# Altium footprint library 694108402002.PcbLib: 1 footprints
Each footprint in its own frame and in the unit in brackets; x right, y up, seen from the top. Pads: shape width x height; smd on the part's side, far side on the other; paste and mask are expansions set on the pad; w line width, h text height; cw(c..) or ccw(c..) is an arc to the next point about the centre after c.
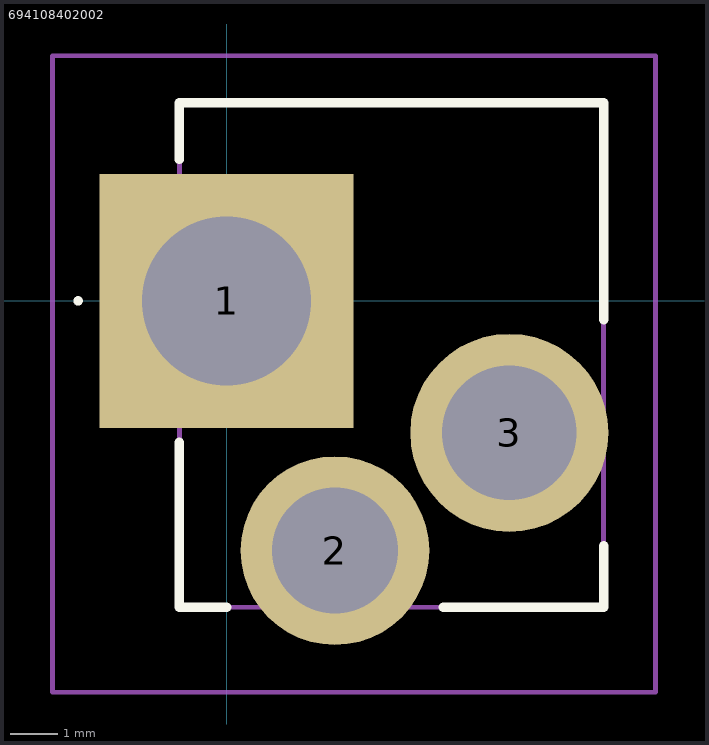
[diagram p0: the footprint, top view; thin cyan lines are the x and y axes]

## 694108402002 [mm]
pads (3):
  rect 5.385x5.385 hole 3.59: 1(0,0)
  round 4.005 hole 2.67: 2(2.3,-5.3)
  round 4.2 hole 2.86: 3(6,-2.8)
Top Overlay:
  lines w0.1: -3.2,0 -3.2,0 ; -3.2,0 ccw(c-3.15,0) -3.1,0 ; -3.2,0 cw(c-3.15,0) -3.1,0 ; -3.1,0 -3.1,0
  lines w0.2: -1,-3 -1,-6.5 0,-6.5 ; -1,3 -1,4.2 8,4.2 8,-0.4 ; 4.6,-6.5 8,-6.5 8,-5.2
Mechanical 15:
  lines w0.1: -1,-6.5 8,-6.5 8,4.2 -1,4.2 -1,-6.5
Mechanical 20:
  lines w0.1: -3.692,-8.303 9.1,-8.303 9.1,5.2 -3.692,5.2 -3.692,-8.303